# EAGLE library part DS3231 (library kalshagar)
DS3231 with a WIDE package SO16W. About 1cm x 1cm.
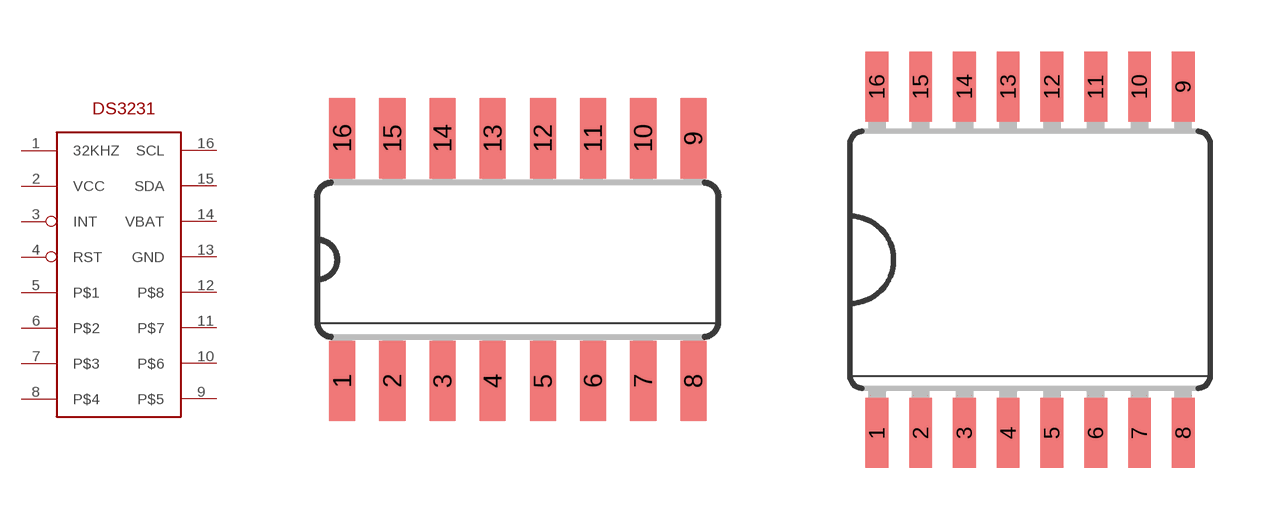
[diagram p0: symbol with the pads of SO16; footprints SO16, SO16W]

Designator prefix -

## DS3231  [SO16]
1  32KHZ  out
2  VCC  in
3  INT
4  RST
5  P$1  nc
6  P$2  nc
7  P$3  nc
8  P$4  nc
9  P$5  nc
10  P$6  nc
11  P$7  nc
12  P$8  nc
13  GND
14  VBAT
15  SDA
16  SCL

## DS3231DS3231-SO16W  [SO16W]
Pads as for SO16

## Footprint SO16 (pad centres in mm)
smd 0.66 x 2.032: 1 -4.445,-3.073; 2 -3.175,-3.073; 3 -1.905,-3.073; 4 -0.635,-3.073; 5 0.635,-3.073; 6 1.905,-3.073; 7 3.175,-3.073; 8 4.445,-3.073; 9 4.445,3.073; 10 3.175,3.073; 11 1.905,3.073; 12 0.635,3.073; 13 -0.635,3.073; 14 -1.905,3.073; 15 -3.175,3.073; 16 -4.445,3.073

## Footprint SO16W (pad centres in mm)
smd 0.66 x 2.032: 1 -5.715,-5.029; 2 -4.445,-5.029; 3 -3.175,-5.029; 4 -1.905,-5.029; 5 -0.635,-5.029; 6 0.635,-5.029; 7 1.905,-5.029; 8 3.175,-5.029; 9 3.175,5.029; 10 1.905,5.029; 11 0.635,5.029; 12 -0.635,5.029; 13 -1.905,5.029; 14 -3.175,5.029; 15 -4.445,5.029; 16 -5.715,5.029